# Altium footprint library SW.PcbLib: 4 footprints
Each footprint in its own frame and in the unit in brackets; x right, y up, seen from the top. Pads: shape width x height; smd on the part's side, far side on the other; paste and mask are expansions set on the pad; w line width, h text height; cw(c..) or ccw(c..) is an arc to the next point about the centre after c.
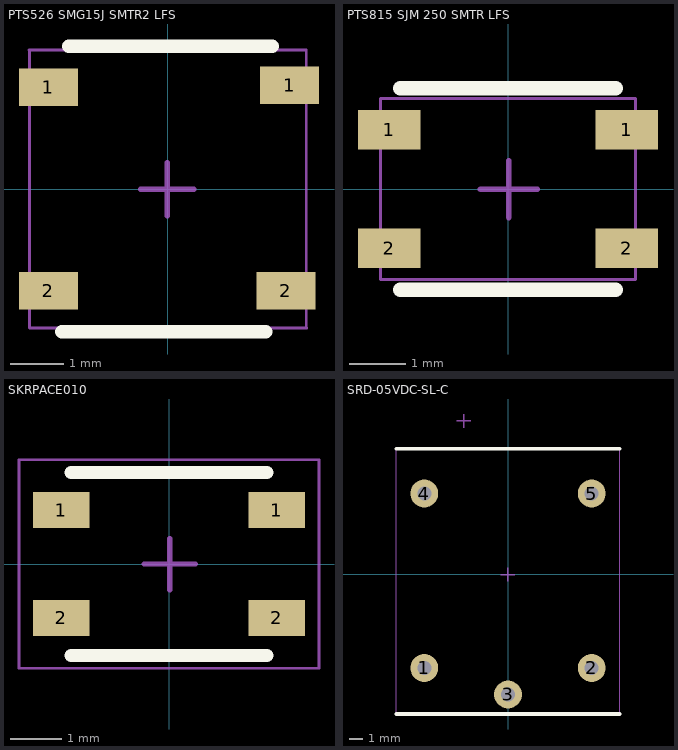
[diagram p0: the footprints below, top view; thin cyan lines are the x and y axes]

## PTS526 SMG15J SMTR2 LFS [mm] "Tactile Switch SPST-NO Top Actuated Surface Mount"
pads (4):
  rect 1.1x0.7 smd: 1(-2.236,1.905) 1(2.277,1.939) 2(-2.236,-1.905) 2(2.209,-1.905)
Top Overlay:
  lines w0.254: -1.982,-2.667 1.828,-2.667 ; -1.855,2.667 1.955,2.667
Mechanical 3:
  text ".Designator" at 0.227,0.254 h0.5
Mechanical 15:
  lines w0.05: -2.6,2.6 2.59,2.6 2.59,-2.6 ; -2.59,2.6 -2.59,-2.6 2.6,-2.6
  lines w0.1: -0.512,-0.003 0.488,-0.003 ; -0.012,-0.503 -0.012,0.497
3D body "PTS526SMG15JSMTR2LFS v2 v1.step": height 1.5, standoff 0, extent -2.61,-2.6 2.59,2.6

## PTS815 SJM 250 SMTR LFS [mm] "Tactile Switch SPST-NO Top Actuated Surface Mount"
pads (4):
  rect 1.1x0.7 smd: 1(-2.1,1.05) 1(2.1,1.05) 2(-2.1,-1.05) 2(2.1,-1.05)
Top Overlay:
  lines w0.254: -1.905,-1.778 1.905,-1.778 ; -1.905,1.778 1.905,1.778
Mechanical 3:
  text ".Designator" at 0,0.889 h0.5
Mechanical 15:
  lines w0.05: -2.25,-1.6 -2.25,1.6 2.25,1.6 2.25,-1.6 -2.25,-1.6
  lines w0.1: -0.485,-0.003 0.515,-0.003 ; 0.015,-0.503 0.015,0.497
3D body "PTS815SJM250SMTRLFS v2.step": height 2.5, standoff 0, extent -2.25,-1.6 2.25,1.6

## SKRPACE010 [mm] "ALPS SKRP SWITCH"
pads (4):
  rect 1.1x0.7 smd: 1(-2.1,1.05) 1(2.1,1.05) 2(-2.1,-1.05) 2(2.1,-1.05)
Top Overlay:
  lines w0.254: -1.905,-1.778 1.905,-1.778 ; -1.905,1.778 1.905,1.778
Mechanical 3:
  text ".Designator" at 0,0.889 h0.5
Mechanical 15:
  lines w0.05: -2.921,-2.032 2.921,-2.032 2.921,2.032 -2.921,2.032 -2.921,-2.032
  lines w0.1: -0.485,-0.003 0.515,-0.003 ; 0.015,-0.503 0.015,0.497

## SRD-05VDC-SL-C [mm] "RELAY SPDT 5V Coil"
pads (5):
  round 2 hole 1: 1(-6,-6.7) 2(6,-6.7) 3(0,-8.6) 4(-6,5.8) 5(6,5.8)
Top Overlay:
  lines w0.254: -8,-10 8,-10 ; -8,9 8,9
Mechanical 3:
  text ".Designator" at 0.227,0.254 h0.5
Mechanical 15:
  lines w0.05: -8,-10 -8,9 8,9 8,-10 -8,-10
  lines w0.1: -3.668,11 -2.668,11 ; -3.168,10.5 -3.168,11.5 ; -0.512,-0.003 0.488,-0.003 ; -0.012,-0.503 -0.012,0.497
3D body "SRD-05VDC-SL-C.step": height 15.11, standoff -4.4, extent -7.5,-10 7.5,9